# EAGLE library part CYUSB3304-68LTXC (library pimoroni-ics)
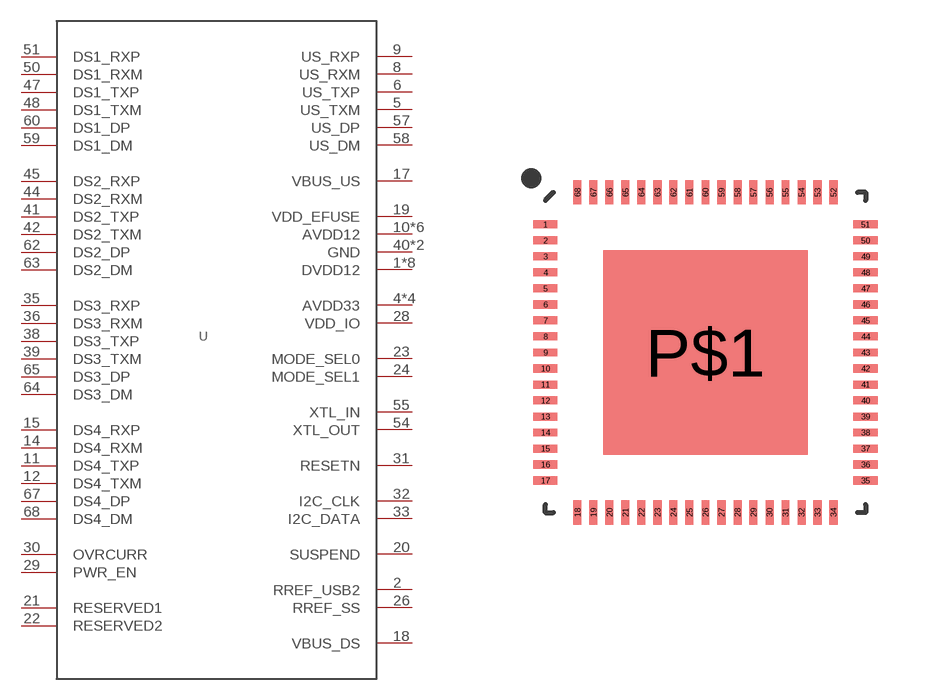
[diagram p178: symbol with the pads of QFN-68; footprint QFN-68]

Designator prefix -

## CYUSB3304-68LTXC  [QFN-68]
1  DVDD12  pwr
2  RREF_USB2
3  DVDD12  pwr
4  AVDD33  pas
5  US_TXM
6  US_TXP
7  DVDD12  pwr
8  US_RXM
9  US_RXP
10  AVDD12  pwr
11  DS4_TXP
12  DS4_TXM
13  DVDD12  pwr
14  DS4_RXM
15  DS4_RXP
16  AVDD12  pwr
17  VBUS_US  pas
18  VBUS_DS  pwr
19  VDD_EFUSE  pwr
20  SUSPEND
21  RESERVED1
22  RESERVED2
23  MODE_SEL0
24  MODE_SEL1
26  RREF_SS
27  DVDD12  pwr
28  VDD_IO  pwr
29  PWR_EN
30  OVRCURR
31  RESETN
32  I2C_CLK
33  I2C_DATA
34  AVDD12  pwr
35  DS3_RXP
36  DS3_RXM
37  DVDD12  pwr
38  DS3_TXP
39  DS3_TXM
40  GND  pwr
41  DS2_TXP
42  DS2_TXM
43  DVDD12  pwr
44  DS2_RXM
45  DS2_RXP
46  AVDD12  pwr
47  DS1_TXP
48  DS1_TXM
49  DVDD12  pwr
50  DS1_RXM
51  DS1_RXP
52  AVDD12  pwr
53  AVDD12  pwr
54  XTL_OUT
55  XTL_IN
56  AVDD33  pas
57  US_DP
58  US_DM
59  DS1_DM
60  DS1_DP
61  AVDD33  pas
62  DS2_DP
63  DS2_DM
64  DS3_DM
65  DS3_DP
66  AVDD33  pas
67  DS4_DP
68  DS4_DM
P$1  GND  pwr

## Footprint QFN-68 (pad centres in mm)
smd 0.6 x 0.2: 1 -4,3.2; 2 -4,2.8; 3 -4,2.4; 4 -4,2; 5 -4,1.6; 6 -4,1.2; 7 -4,0.8; 8 -4,0.4; 9 -4,0; 10 -4,-0.4; 11 -4,-0.8; 12 -4,-1.2; 13 -4,-1.6; 14 -4,-2; 15 -4,-2.4; 16 -4,-2.8; 17 -4,-3.2; 35 4,-3.2; 36 4,-2.8; 37 4,-2.4; 38 4,-2; 39 4,-1.6; 40 4,-1.2; 41 4,-0.8; 42 4,-0.4; 43 4,0; 44 4,0.4; 45 4,0.8; 46 4,1.2; 47 4,1.6; 48 4,2; 49 4,2.4; 50 4,2.8; 51 4,3.2
smd 0.2 x 0.6: 18 -3.2,-4; 19 -2.8,-4; 20 -2.4,-4; 21 -2,-4; 22 -1.6,-4; 23 -1.2,-4; 24 -0.8,-4; 25 -0.4,-4; 26 0,-4; 27 0.4,-4; 28 0.8,-4; 29 1.2,-4; 30 1.6,-4; 31 2,-4; 32 2.4,-4; 33 2.8,-4; 34 3.2,-4; 52 3.2,4; 53 2.8,4; 54 2.4,4; 55 2,4; 56 1.6,4; 57 1.2,4; 58 0.8,4; 59 0.4,4; 60 0,4; 61 -0.4,4; 62 -0.8,4; 63 -1.2,4; 64 -1.6,4; 65 -2,4; 66 -2.4,4; 67 -2.8,4; 68 -3.2,4
smd 5.1 x 5.1: P$1 0,0